# Altium schematic symbol library STM32H743II.SchLib: 1 symbol
Pins are listed as number, name and electrical type; pins without a type are passive.

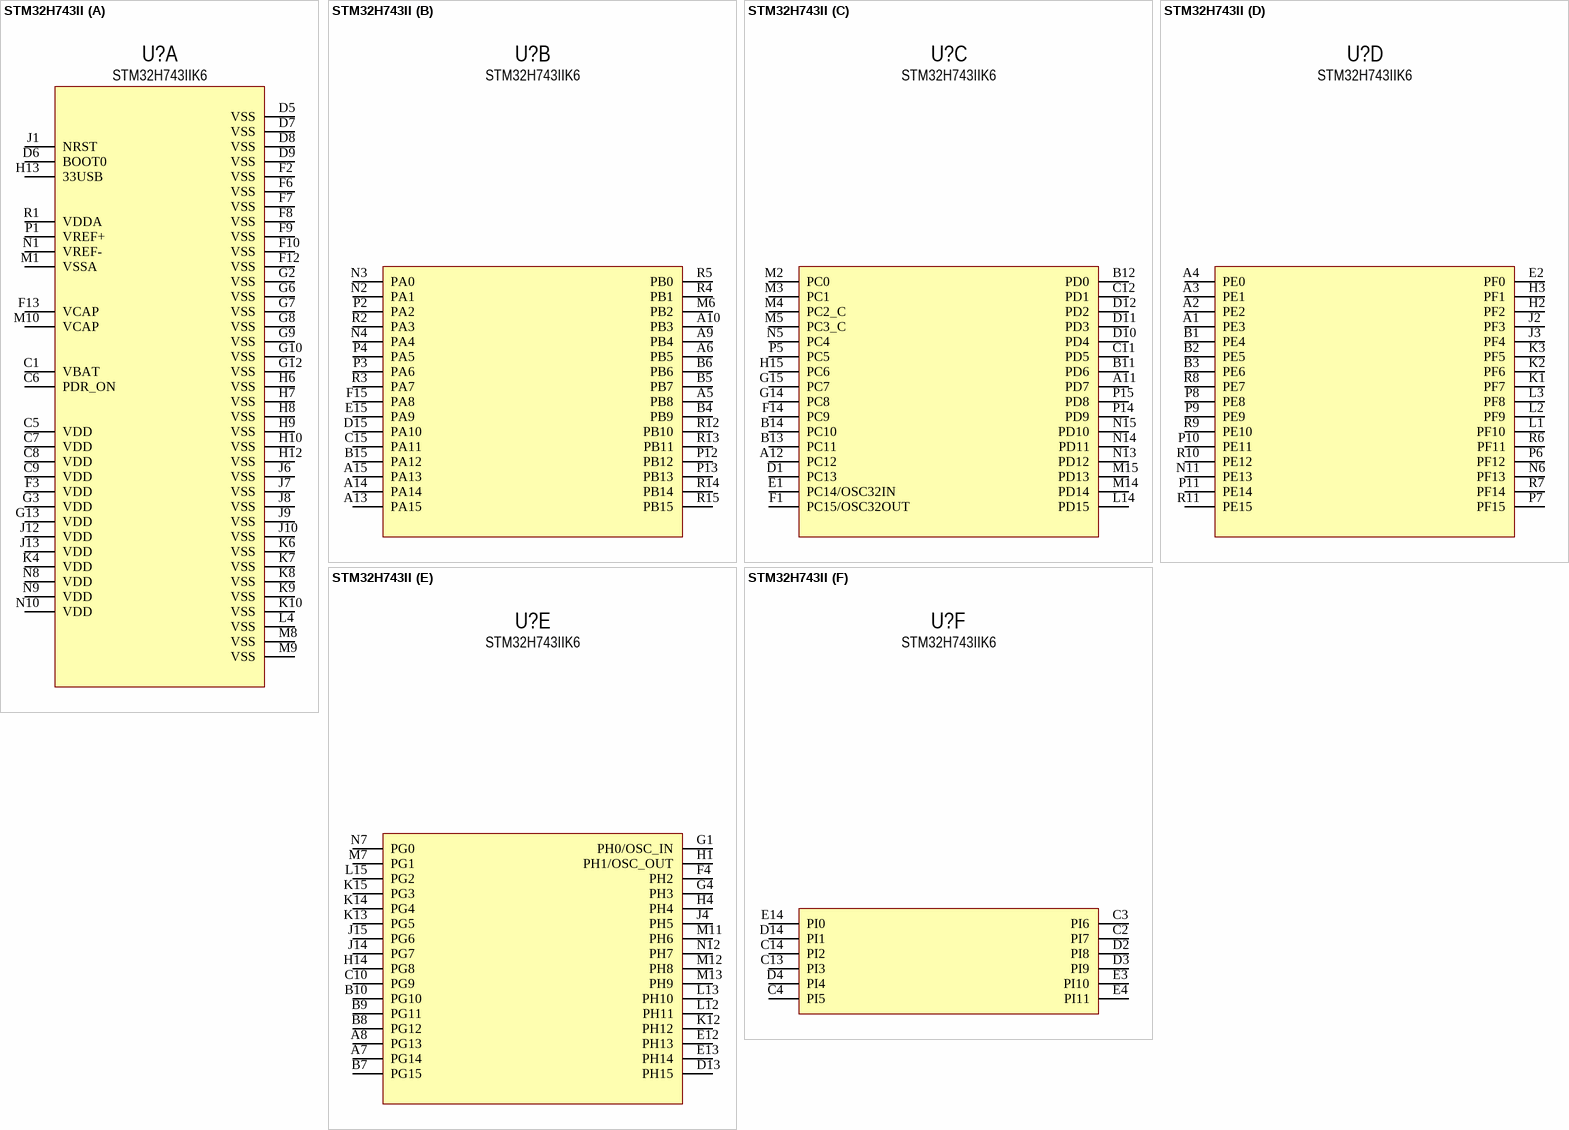
[diagram p0: symbol STM32H743II]

## STM32H743II
designator U?, comment STM32H743IIK6
High-performance and DSP with DP-FPU, Arm Cortex-M7 MCU with 2MBytes of Flash memory, 1MB RAM, 480 MHz CPU, Art Accelerator, L1 cache, external memory interface, large set of peripherals; Потребление, Вт: 1; Назначение: Arm Cortex-M7 MCU; DataSheet: https://www.st.com/resource/en/datasheet/stm32h743ii.pdf; RefMan: https://www.st.com/resource/en/reference_manual/rm0433-stm32h742-stm32h743753-and-stm32h750-value-line-advanced-armbased-32bit-mcus-stmicroelectronics.pdf; Наименование: STM32H743IIK6
footprint UFBGA176+25
part A pins: C1 VBAT, C5 VDD, C6 PDR_ON, C7 VDD, C8 VDD, C9 VDD, D5 VSS, D6 BOOT0, D7 VSS, D8 VSS, D9 VSS, F2 VSS, F3 VDD, F6 VSS, F7 VSS, F8 VSS, F9 VSS, F10 VSS, F12 VSS, F13 VCAP, G2 VSS, G3 VDD, G6 VSS, G7 VSS, G8 VSS, G9 VSS, G10 VSS, G12 VSS, G13 VDD, H6 VSS, H7 VSS, H8 VSS, H9 VSS, H10 VSS, H12 VSS, H13 33USB, J1 NRST, J6 VSS, J7 VSS, J8 VSS, J9 VSS, J10 VSS, J12 VDD, J13 VDD, K4 VDD, K6 VSS, K7 VSS, K8 VSS, K9 VSS, K10 VSS, L4 VSS, M1 VSSA, M8 VSS, M9 VSS, M10 VCAP, N1 VREF-, N8 VDD, N9 VDD, N10 VDD, P1 VREF+, R1 VDDA
part B pins: A5 PB8, A6 PB5, A9 PB4, A10 PB3, A13 PA15, A14 PA14, A15 PA13, B4 PB9, B5 PB7, B6 PB6, B15 PA12, C15 PA11, D15 PA10, E15 PA9, F15 PA8, M6 PB2, N2 PA1, N3 PA0, N4 PA4, P2 PA2, P3 PA6, P4 PA5, P12 PB12, P13 PB13, R2 PA3, R3 PA7, R4 PB1, R5 PB0, R12 PB10, R13 PB11, R14 PB14, R15 PB15
part C pins: A11 PD7, A12 PC12, B11 PD6, B12 PD0, B13 PC11, B14 PC10, C11 PD5, C12 PD1, D1 PC13, D10 PD4, D11 PD3, D12 PD2, E1 PC14/OSC32IN, F1 PC15/OSC32OUT, F14 PC9, G14 PC8, G15 PC7, H15 PC6, L14 PD15, M2 PC0, M3 PC1, M4 PC2_C, M5 PC3_C, M14 PD14, M15 PD13, N5 PC4, N13 PD12, N14 PD11, N15 PD10, P5 PC5, P14 PD9, P15 PD8
part D pins: A1 PE3, A2 PE2, A3 PE1, A4 PE0, B1 PE4, B2 PE5, B3 PE6, E2 PF0, H2 PF2, H3 PF1, J2 PF3, J3 PF4, K1 PF7, K2 PF6, K3 PF5, L1 PF10, L2 PF9, L3 PF8, N6 PF13, N11 PE13, P6 PF12, P7 PF15, P8 PE8, P9 PE9, P10 PE11, P11 PE14, R6 PF11, R7 PF14, R8 PE7, R9 PE10, R10 PE12, R11 PE15
part E pins: A7 PG14, A8 PG13, B7 PG15, B8 PG12, B9 PG11, B10 PG10, C10 PG9, D13 PH15, E12 PH13, E13 PH14, F4 PH2, G1 PH0/OSC_IN, G4 PH3, H1 PH1/OSC_OUT, H4 PH4, H14 PG8, J4 PH5, J14 PG7, J15 PG6, K12 PH12, K13 PG5, K14 PG4, K15 PG3, L12 PH11, L13 PH10, L15 PG2, M7 PG1, M11 PH6, M12 PH8, M13 PH9, N7 PG0, N12 PH7
part F pins: C2 PI7, C3 PI6, C4 PI5, C13 PI3, C14 PI2, D2 PI8, D3 PI9, D4 PI4, D14 PI1, E3 PI10, E4 PI11, E14 PI0